# EAGLE library part TJA1051(X)/3 (library serial_interfaces)
1/1 Transceiver Half CAN 8-HVSON (3x3)
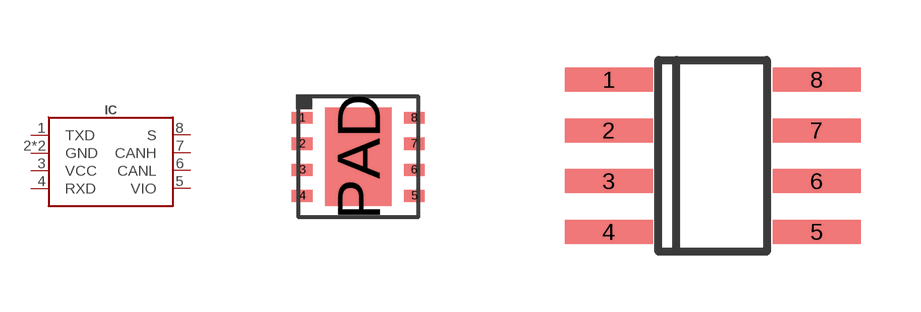
[diagram p1: symbol with the pads of SOT782-1; footprints SOT782-1, SOIC8]

Designator prefix IC

## TJA1051(X)/3-HVSON8 (DIGIKEY#: 568-8686-2-ND; MANF: NXP Semiconductors; MANF#: TJA1051TK/3,118)  [SOT782-1]
1  TXD
2  GND
3  VCC
4  RXD
5  VIO
6  CANL
7  CANH
8  S
PAD  GND

## TJA1051(X)/3-SO8 (DIGIKEY#: 568-8684-2-ND; MANF: NXP USA Inc; MANF#: TJA1051T/3,118)  [SOIC8]
1  TXD
2  GND
3  VCC
4  RXD
5  VIO
6  CANL
7  CANH
8  S

## Footprint SOT782-1 (pad centres in mm)
http://www.nxp.com/packages/SOT782-1
smd 0.525 x 0.3: 1 -1.4,0.975; 2 -1.4,0.325; 3 -1.4,-0.325; 4 -1.4,-0.975; 5 1.4,-0.975; 6 1.4,-0.325; 7 1.4,0.325; 8 1.4,0.975
smd 1.65 x 2.45: PAD 0,0

## Footprint SOIC8 (pad centres in mm)
Small Outline IC
smd 2.2 x 0.6: 1 -2.6,1.905; 2 -2.6,0.635; 3 -2.6,-0.635; 4 -2.6,-1.905; 5 2.6,-1.905; 6 2.6,-0.635; 7 2.6,0.635; 8 2.6,1.905